# EAGLE library part 2-1571999-9 (library Switches)
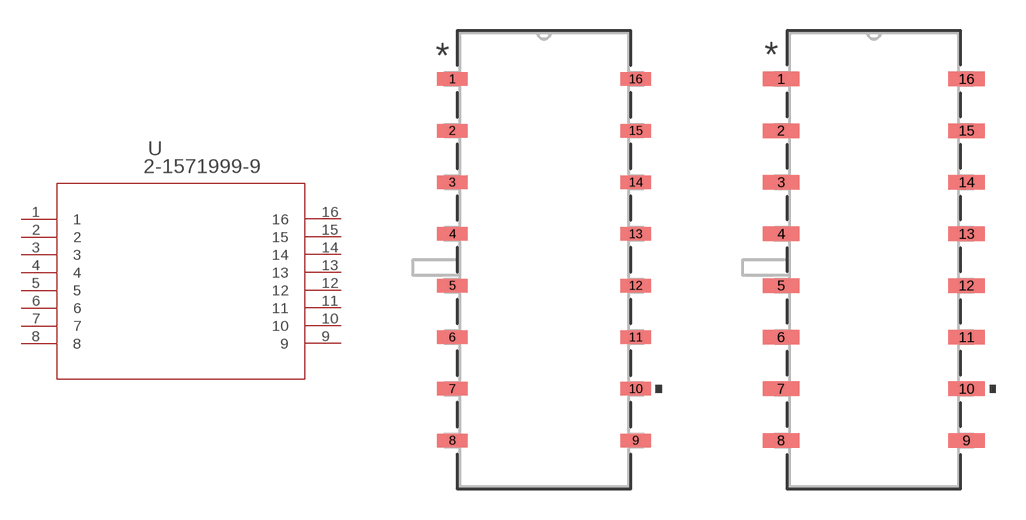
[diagram p24: symbol with the pads of SWITCH_2-1571999-9; footprints SWITCH_2-1571999-9, SWITCH_2-1571999-9-M]

Designator prefix U

## 2-1571999-9 (BUILT_BY: EMA_UL_Team; CATEGORY: DIP & SIP Switches; COPYRIGHT: Copyright (C) 2016 Accelerated Designs. All rights reserved; DESCRIPTION: ADP08STR04=PIANO DIP SWITCH; MANUFACTURER_PART_NUMBER: 2-1571999-9; PART_STATUS: active; SERIES: Alcoswitch DIP,Alcoswitch DIP ADP & ADPA; VENDOR: TE Connectivity)  [SWITCH_2-1571999-9]
1  1  pas
2  2  pas
3  3  pas
4  4  pas
5  5  pas
6  6  pas
7  7  pas
8  8  pas
9  9  pas
10  10  pas
11  11  pas
12  12  pas
13  13  pas
14  14  pas
15  15  pas
16  16  pas

## 2-1571999-9SWITCH_2-1571999-9-M (BUILT_BY: EMA_UL_Team; CATEGORY: DIP & SIP Switches; COPYRIGHT: Copyright (C) 2016 Accelerated Designs. All rights reserved; DESCRIPTION: ADP08STR04=PIANO DIP SWITCH; MANUFACTURER_PART_NUMBER: 2-1571999-9; PART_STATUS: active; SERIES: Alcoswitch DIP,Alcoswitch DIP ADP & ADPA; VENDOR: TE Connectivity)  [SWITCH_2-1571999-9-M]
Pads as for SWITCH_2-1571999-9

## 2-1571999-9SWITCH_2-1571999-9-L (BUILT_BY: EMA_UL_Team; CATEGORY: DIP & SIP Switches; COPYRIGHT: Copyright (C) 2016 Accelerated Designs. All rights reserved; DESCRIPTION: ADP08STR04=PIANO DIP SWITCH; MANUFACTURER_PART_NUMBER: 2-1571999-9; PART_STATUS: active; SERIES: Alcoswitch DIP,Alcoswitch DIP ADP & ADPA; VENDOR: TE Connectivity)  [SWITCH_2-1571999-9-L]
Pads as for SWITCH_2-1571999-9

## Footprint SWITCH_2-1571999-9 (pad centres in mm)
smd 1.499 x 0.66: 1 -4.508,8.89; 2 -4.508,6.35; 3 -4.508,3.81; 4 -4.508,1.27; 5 -4.508,-1.27; 6 -4.508,-3.81; 7 -4.508,-6.35; 8 -4.508,-8.89; 9 4.508,-8.89; 10 4.508,-6.35; 11 4.508,-3.81; 12 4.508,-1.27; 13 4.508,1.27; 14 4.508,3.81; 15 4.508,6.35; 16 4.508,8.89

## Footprint SWITCH_2-1571999-9-M (pad centres in mm)
smd 1.803 x 0.711: 1 -4.559,8.89; 2 -4.559,6.35; 3 -4.559,3.81; 4 -4.559,1.27; 5 -4.559,-1.27; 6 -4.559,-3.81; 7 -4.559,-6.35; 8 -4.559,-8.89; 9 4.559,-8.89; 10 4.559,-6.35; 11 4.559,-3.81; 12 4.559,-1.27; 13 4.559,1.27; 14 4.559,3.81; 15 4.559,6.35; 16 4.559,8.89

## Footprint SWITCH_2-1571999-9-L (pad centres in mm)
smd 1.194 x 0.61: 1 -4.458,8.89; 2 -4.458,6.35; 3 -4.458,3.81; 4 -4.458,1.27; 5 -4.458,-1.27; 6 -4.458,-3.81; 7 -4.458,-6.35; 8 -4.458,-8.89; 9 4.458,-8.89; 10 4.458,-6.35; 11 4.458,-3.81; 12 4.458,-1.27; 13 4.458,1.27; 14 4.458,3.81; 15 4.458,6.35; 16 4.458,8.89